# EAGLE library part JEELABS_PORT0_HDR (library ModernDevice.l#1)
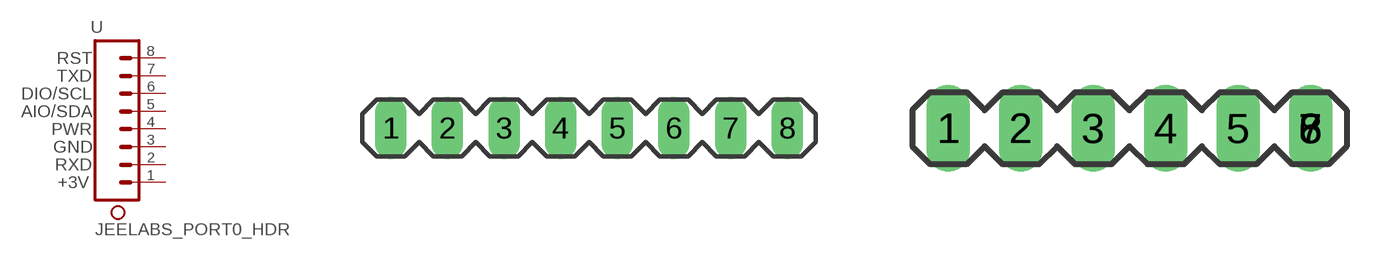
[diagram p66: symbol with the pads of 1X08; footprints 1X08, JL_PORT0_1X06]

Designator prefix -

## JEELABS_PORT0_HDRFULL8_PIN  [1X08]
1  1_3V3  pas
2  2_RXD  pas
3  3_GND  pas
4  4_PWR  pas
5  5_AIO/SDA  pas
6  6_DIO/SCL  pas
7  7_TXD  pas
8  8_RST  pas

## JEELABS_PORT0_HDRFULL8_PIN_LONG  [1X08]
Pads as for 1X08

## JEELABS_PORT0_HDR6PIN  [JL_PORT0_1X06]
Pads as for 1X08

## Footprint 1X08 (pad centres in mm)
drill 0.9 long: 1 0,0; 2 2.54,0; 3 5.08,0; 4 7.62,0; 5 10.16,0; 6 12.7,0; 7 15.24,0; 8 17.78,0

## Footprint JL_PORT0_1X06 (pad centres in mm)
drill 0.9 pad 1.524 long: 1 0,0; 3 5.08,0; 4 7.62,0; 5 10.16,0; 6 12.7,0; 7 12.7,0; 8 12.7,0
drill 0.889 pad 1.524 long: 2 2.54,0